# Altium footprint library B25654A9756K001.PcbLib: 1 footprints
Each footprint in its own frame and in the unit in brackets; x right, y up, seen from the top. Pads: shape width x height; smd on the part's side, far side on the other; paste and mask are expansions set on the pad; w line width, h text height; cw(c..) or ccw(c..) is an arc to the next point about the centre after c.
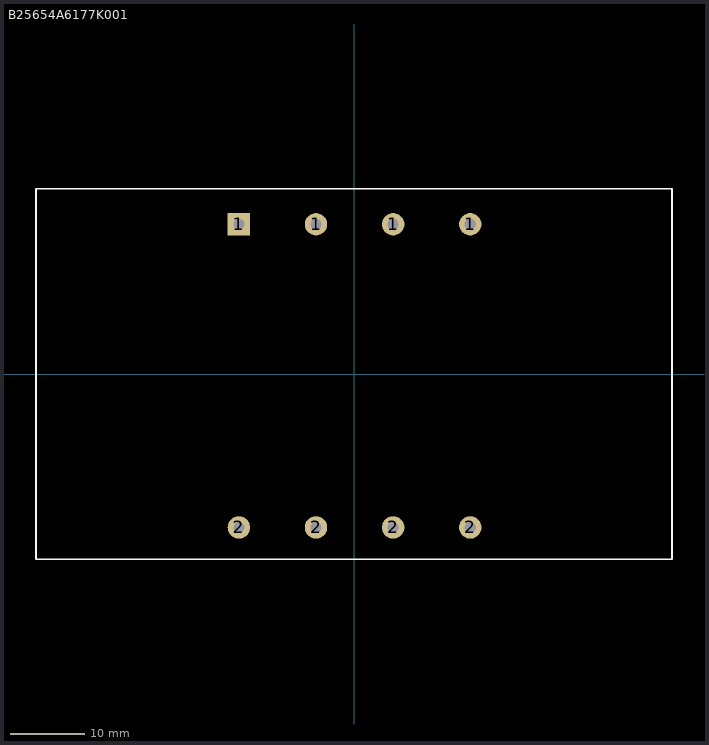
[diagram p0: the footprint, top view; thin cyan lines are the x and y axes]

## B25654A6177K001 [mm]
pads (8):
  rect 3x3 hole 1.5 square: 1(-15.425,20)
  round 3 hole 1.5: 1(-5.125,20) 1(5.175,20) 1(15.475,20) 2(-15.425,-20.5) 2(-5.125,-20.5) 2(5.175,-20.5) 2(15.475,-20.5)
Top Overlay:
  lines w0.254: -42.55,-24.75 42.45,-24.75 42.45,24.75 -42.55,24.75 -42.55,-24.75
3D body "xevcap_type_a_wire_lead.step": height 5.8, standoff -40.7, extent -42.55,-24.97 42.45,24.47